# Altium footprint library Control_Board_Model_C201.PcbLib: 94 footprints (part 6 of 6)
Each footprint in its own frame and in the unit in brackets; x right, y up, seen from the top. Pads: shape width x height; smd on the part's side, far side on the other; paste and mask are expansions set on the pad; w line width, h text height; cw(c..) or ccw(c..) is an arc to the next point about the centre after c.
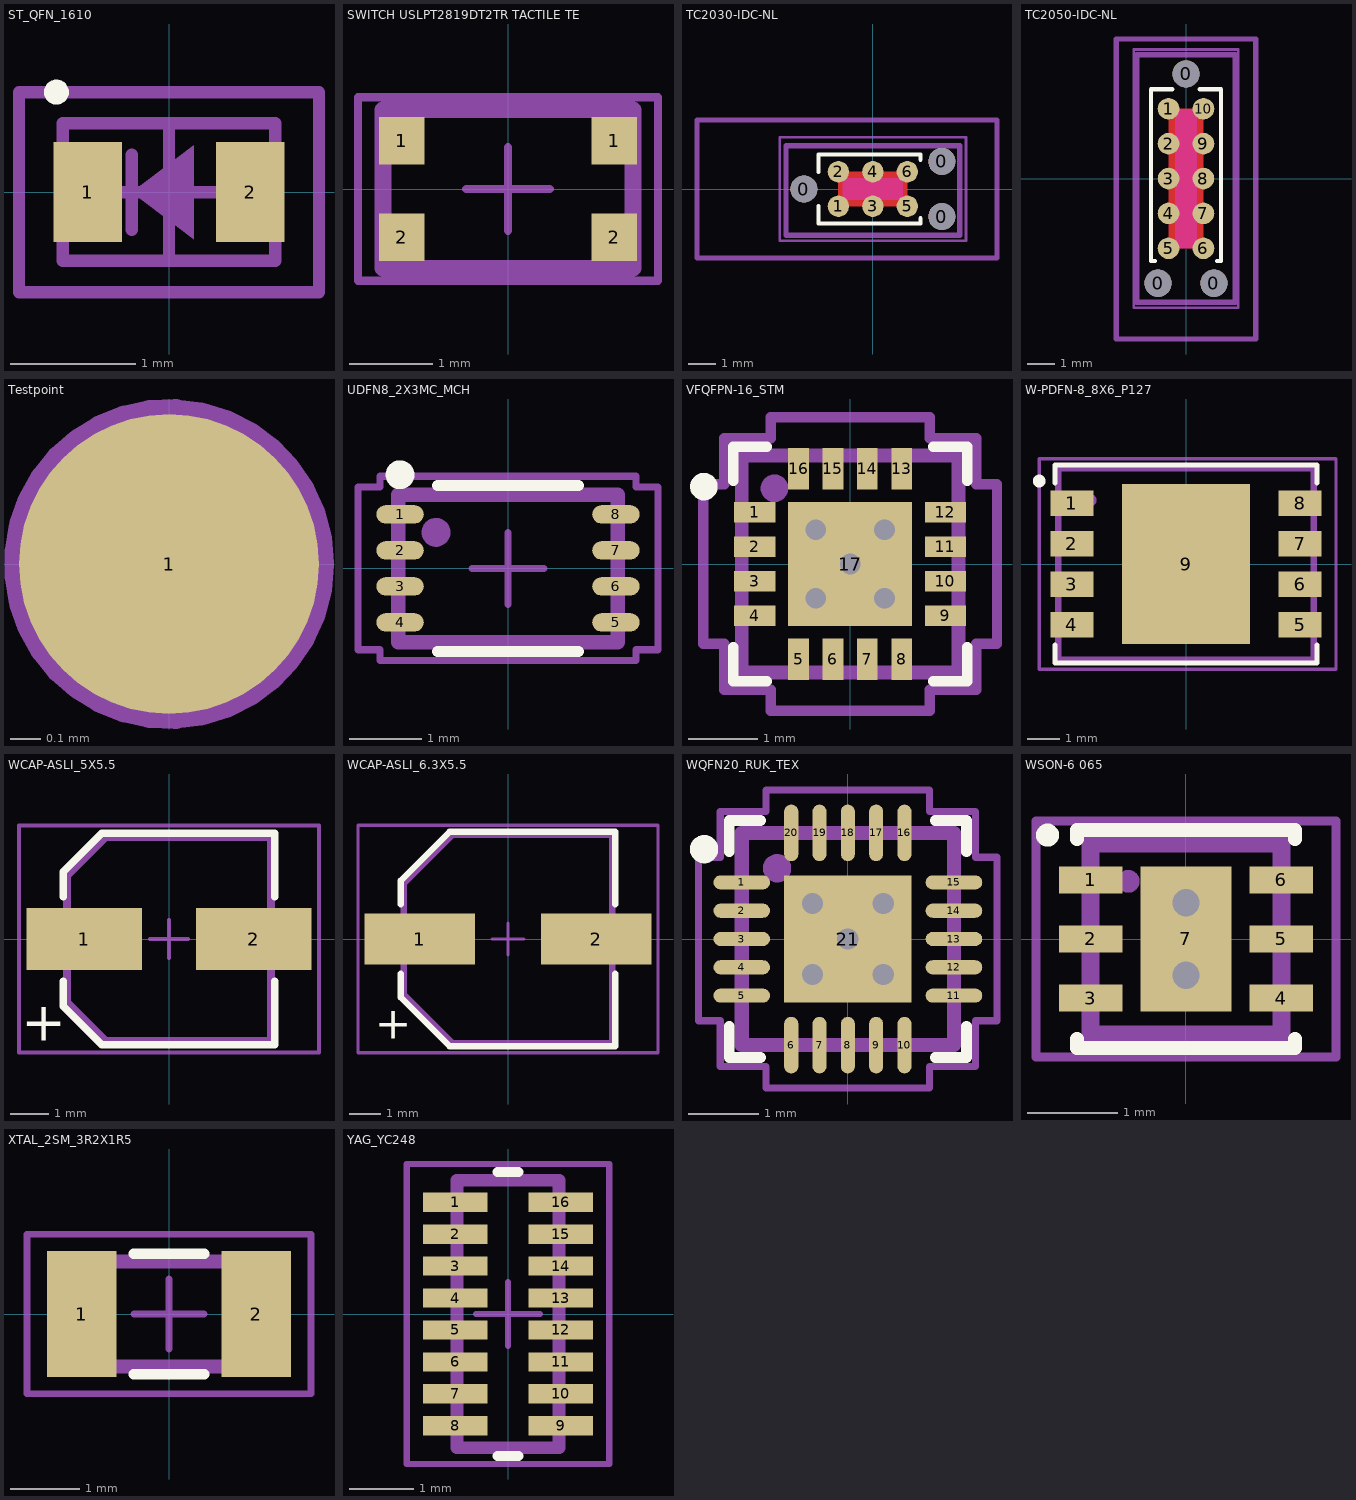
[diagram p5: the footprints below, top view; thin cyan lines are the x and y axes]

## ST_QFN_1610 [mm] "2-UDFN"
height 0.6
pads (2):
  rect 0.55x0.8 smd: 1(-0.65,0) 2(0.65,0)
Top Overlay:
  circle w0.1: c-0.9,0.8 r0.05
Mechanical 14:
  region: -0.3,0 0.2,0.375 0.2,-0.375
  lines w0.1: -0.3,-0.3 -0.3,0.3 ; -0.85,-0.55 0.85,-0.55 0.85,0.55 -0.85,0.55 -0.85,-0.55
  text "'.Designator'" at -0.8,0.8 h0.5
Mechanical 15:
  lines w0.1: -0.5,0 0.5,0 ; 0,-0.5 0,0.5 ; -1.2,-0.8 1.2,-0.8 1.2,0.8 -1.2,0.8 -1.2,-0.8
3D body "ST_1610.step": height 0.6, standoff 0, extent -0.85,-0.55 0.85,0.55

## SWITCH USLPT2819DT2TR TACTILE TE [mm] "Tactile Switch SPST-NO Top Actuated Surface Mount"
height 0.6
pads (4):
  rect 0.55x0.57 smd: 1(-1.275,0.58) 1(1.275,0.58) 2(-1.275,-0.58) 2(1.275,-0.58)
Mechanical 14:
  lines w0.2: -1.5,-0.95 1.5,-0.95 1.5,0.95 -1.5,0.95 -1.5,-0.95
  text "'.Designator'" at -0.7,-0.2 h0.5
Mechanical 15:
  lines w0.1: -0.5,0 0.5,0 ; 0,-0.5 0,0.5 ; -1.8,-1.1 -1.8,1.1 1.8,1.1 1.8,-1.1 -1.8,-1.1
3D body "c-2337225-1-a-3d.stp": height 0.6, standoff 0, extent -1.5,-0.95 1.5,0.95

## TC2030-IDC-NL [mil] "Tag-Connect 6-Pin with No Legs (PN# TC2030-IDC-NL)"
pads (9):
  round 39 hole 39 unplated paste-20: 0(-100,0) 0(100,-40) 0(100,40)
  round 31 smd paste-16: 1(-50,-25) 2(-50,25) 3(0,-25) 4(0,25) 5(50,-25) 6(50,25)
Top Layer:
  pour cut-out: -50,25 50,25 50,-25 -50,-25
Top Layer keep-out:
  rectangle: -44,-16 44,16
Top Overlay:
  lines w5.98: -78.74,-24.61 -78.74,-50 68.9,-50 68.9,-42.32 ; -78.74,24.61 -78.74,50 68.9,50 68.9,42.32
Mechanical 14:
  lines w7.87: -125.98,-66.93 -125.98,62.99 125.98,62.99 125.98,-66.93 -125.98,-66.93
  text "6" at 43.31,15.75 h19.68
  text "5" at 43.31,-35.43 h19.68
  text "4" at -7.87,15.75 h19.68
  text "3" at -7.87,-35.43 h19.68
  text "2" at -59.06,15.75 h19.68
  text "1" at -55.12,-35.43 h19.68
  text "'.Designator'" at -39.37,-7.87 h19.68
Mechanical 15:
  lines w3.94: -19.68,0 19.68,0 ; 0,-19.68 0,19.68 ; -135,-75 -135,75 135,75 135,-75 -135,-75
Mechanical 19:
  lines w7.87: -255,-100 -255,100 180,100 180,-100 -255,-100

## TC2050-IDC-NL [mil] "Tag-Connect 10-Pin with No Legs (PN# TC2050-IDC-NL)"
pads (13):
  round 39 hole 39 unplated: 0(-40,-150) 0(0,150) 0(40,-150)
  round 31 smd paste-16: 1(-25,100) 2(-25,50) 3(-25,0) 4(-25,-50) 5(-25,-100) 6(25,-100) 7(25,-50) 8(25,0) 9(25,50) 10(25,100)
Top Layer:
  pour cut-out: -25,100 25,100 25,-100 -25,-100
Top Layer keep-out:
  region: -16,100 -16,-100 16,-100 16,100
Top Overlay:
  lines w6: -44.29,-118.11 -50,-118.11 -50,127.95 -19.68,127.95 ; 19.68,127.95 50,127.95 50,-118.11 44.29,-118.11
Mechanical 14:
  lines w7.87: -70.87,-177.17 -70.87,177.17 70.87,177.17 70.87,-177.17 -70.87,-177.17
  text "'.Designator'" at -78.74,192.91 h19.68
  text "10" at 11.81,90.55 h19.68
  text "1" at -27.56,90.55 h19.68
  text "9" at 19.68,39.37 h19.68
  text "2" at -31.5,39.37 h19.68
  text "8" at 19.68,-7.87 h19.68
  text "3" at -31.5,-7.87 h19.68
  text "7" at 19.68,-59.06 h19.68
  text "4" at -35.43,-59.06 h19.68
  text "5" at -31.5,-110.24 h19.68
  text "6" at 19.68,-106.3 h19.68
Mechanical 15:
  lines w3.94: -19.68,0 19.68,0 ; 0,-19.68 0,19.68 ; -74.8,-185.04 74.8,-185.04 74.8,185.04 -74.8,185.04 -74.8,-185.04
Mechanical 19:
  lines w7.87: -100,-230 100,-230 100,200 -100,200 -100,-230

## Testpoint [mm] "Test Point"
height 0.025
pads (1):
  round 1 smd paste-0.508 mask-0.025: 1(0,0)
Mechanical 14:
  circle w0.1: c0,0 r0.5
  text "'.Designator'" at -0.625,0.625 h0.5
3D body: height -0.19, standoff -0.2, extent -0.496,-0.499 0.5,0.499

## UDFN8_2X3MC_MCH [mil] "8-UFDFN Exposed Pad"
pads (8):
  rrect100% 26x10 smd mask+1.97: 1(-59.04,29.53) 2(-59.04,9.84) 3(-59.04,-9.84) 4(-59.04,-29.53) 5(59.04,-29.53) 6(59.04,-9.84) 7(59.04,9.84) 8(59.04,29.53)
Top Overlay:
  circle w7.87: c-59.06,51.18 r3.94
  lines w6: -38.66,-45.35 38.66,-45.35 ; -38.66,45.35 38.66,45.35
Mechanical 14:
  circle w7.87: c-39.37,19.68 r3.94
  lines w7.87: -60.04,-40.35 -60.04,40.35 60.04,40.35 60.04,-40.35 -60.04,-40.35
  text "'.Designator'" at -27.56,-11.81 h19.68
Mechanical 15:
  lines w3.94: -19.68,0 19.68,0 ; 0,-19.68 0,19.68 ; -82.04,-44.53 -70.04,-44.53 -70.04,-50.35 70.04,-50.35 70.04,-44.53 82.04,-44.53 82.04,44.53 70.04,44.53 70.04,50.35 -70.04,50.35 -70.04,44.53 -82.04,44.53 -82.04,-44.53
3D body "UDFN8_2x3MC_MCH.step": height 18.74, standoff 0, extent -60.04,-40.35 60.04,40.35

## VFQFPN-16_STM [mm]
pads (17):
  rect 0.6x0.3 smd mask+0.05: 1(-1.385,0.75) 2(-1.385,0.25) 3(-1.385,-0.25) 4(-1.385,-0.75) 9(1.385,-0.75) 10(1.385,-0.25) 11(1.385,0.25) 12(1.385,0.75)
  rect 0.3x0.6 smd mask+0.05: 5(-0.75,-1.385) 6(-0.25,-1.385) 7(0.25,-1.385) 8(0.75,-1.385) 13(0.75,1.385) 14(0.25,1.385) 15(-0.25,1.385) 16(-0.75,1.385)
  rect 1.8x1.8 smd mask+0.05: 17(0,0)
via 0,0 diameter 0.605 hole 0.3
via 0.5,-0.5 diameter 0.605 hole 0.3
via -0.5,-0.5 diameter 0.605 hole 0.3
via 0.5,0.5 diameter 0.605 hole 0.3
via -0.5,0.5 diameter 0.605 hole 0.3
Top Overlay:
  circle w0.2: c-2.125,1.125 r0.1
  lines w0.152: -1.702,-1.21 -1.702,-1.702 -1.21,-1.702 ; -1.702,1.21 -1.702,1.702 -1.21,1.702 ; 1.21,-1.702 1.702,-1.702 1.702,-1.21 ; 1.21,1.702 1.702,1.702 1.702,1.21
Mechanical 14:
  circle w0.2: c-1.1,1.1 r0.1
  lines w0.2: -1.575,-1.575 1.575,-1.575 1.575,1.575 -1.575,1.575 -1.575,-1.575
  text "'.Designator'" at -1,-0.2 h0.5
Mechanical 15:
  lines w0.1: -0.5,0 0.5,0 ; 0,-0.5 0,0.5
  lines w0.152: -2.134,-1.156 -1.829,-1.156 -1.829,-1.829 -1.156,-1.829 -1.156,-2.134 1.156,-2.134 1.156,-1.829 1.829,-1.829 1.829,-1.156 2.134,-1.156 2.134,1.156 1.829,1.156 1.829,1.829 1.156,1.829 1.156,2.134 -1.156,2.134 -1.156,1.829 -1.829,1.829 -1.829,1.156 -2.134,1.156 -2.134,-1.156
3D body "VFQFPN-16_STM.step": height 0.94, standoff 0, extent -1.575,-1.575 1.575,1.575

## W-PDFN-8_8X6_P127 [mm]
pads (9):
  rect 1.35x0.8 smd mask+0.05: 1(-3.575,1.905) 2(-3.575,0.635) 3(-3.575,-0.635) 4(-3.575,-1.905) 5(3.575,-1.905) 6(3.575,-0.635) 7(3.575,0.635) 8(3.575,1.905)
  rect 4x5 smd mask+0.05: 9(0,0)
Top Overlay:
  circle w0.2: c-4.6,2.6 r0.1
  lines w0.152: -4.1,-2.54 -4.1,-3.1 4.1,-3.1 4.1,-2.54 ; -4.1,2.54 -4.1,3.1 4.1,3.1 4.1,2.54
Mechanical 14:
  circle w0.2: c-3,2 r0.1
  lines w0.2: 4,3 -4,3 -4,-3 4,-3 4,3 ; 4,3 4,3
  text ".Designator" at -1.1,-0.2 h0.5
Mechanical 15:
  lines w0.1: -0.635,0 0.635,0 ; 0,-0.635 0,0.635 ; -4.6,-3.3 -4.6,3.3 4.7,3.3 4.7,-3.3 -4.6,-3.3
3D body: height 0.8, standoff 0, extent -4.005,-3.005 4.005,3.005

## WCAP-ASLI_5X5.5 [mm] "Aluminium Electrolytic V-Chip SMT Capacitors, 5x5.5mm"
height 5.5
pads (2):
  rect 3x1.6 smd: 1(-2.2,0) 2(2.2,0)
Top Overlay:
  lines w0.2: -2.75,-1.1 -2.75,-1.75 -1.75,-2.75 2.75,-2.75 2.75,-1.1 ; -2.75,1.1 -2.75,1.75 -1.75,2.75 2.75,2.75 2.75,1.1
  text "+" at -2.667,-1.778 h1.02
Mechanical 14:
  lines w0.2: -2.65,-1.65 -2.65,1.65 -1.65,2.65 2.65,2.65 2.65,-2.65 -1.65,-2.65 -2.65,-1.65
  text "+" at -1.524,0.508 h1.02
  text "'.Designator'" at 0.254,-0.635 h0.5
Mechanical 15:
  lines w0.1: -0.5,0 0.5,0 ; 0,-0.5 0,0.5 ; -3.9,-2.95 3.9,-2.95 3.9,2.95 -3.9,2.95 -3.9,-2.95
3D body "5x5.5x1.4.stp": height 5.5, standoff 0, extent -3,-2.65 3,2.65

## WCAP-ASLI_6.3X5.5 [mm] "Aluminium Electrolytic V-Chip SMT Capacitors, 6.3x5.5mm"
height 5.5
pads (2):
  rect 3.5x1.6 smd: 1(-2.8,0) 2(2.8,0)
Top Overlay:
  lines w0.2: -3.4,-1.1 -3.4,-1.85 -1.85,-3.4 3.4,-3.4 3.4,-1.1 ; -3.4,1.1 -3.4,1.85 -1.85,3.4 3.4,3.4 3.4,1.1
  text "+" at -3.048,-2.286 h1.02
Mechanical 14:
  lines w0.2: -3.3,-1.75 -3.3,1.75 -1.75,3.3 3.3,3.3 3.3,-3.3 -1.75,-3.3 -3.3,-1.75
  text "+" at -2.159,0.508 h1.02
  text "'.Designator'" at -0.635,0 h0.5
Mechanical 15:
  lines w0.1: -0.5,0 0.5,0 ; 0,-0.5 0,0.5 ; -4.75,-3.6 4.75,-3.6 4.75,3.6 -4.75,3.6 -4.75,-3.6
3D body "6.3x5.5x2.2.stp": height 5.5, standoff 0, extent -3.65,-3.3 3.65,3.3

## WQFN20_RUK_TEX [mm]
pads (21):
  rrect100% 0.8x0.2 smd mask+0.05: 1(-1.5,0.8) 2(-1.5,0.4) 3(-1.5,0) 4(-1.5,-0.4) 5(-1.5,-0.8) 11(1.5,-0.8) 12(1.5,-0.4) 13(1.5,0) 14(1.5,0.4) 15(1.5,0.8)
  rrect100% 0.2x0.8 smd mask+0.05: 6(-0.8,-1.5) 7(-0.4,-1.5) 8(0,-1.5) 9(0.4,-1.5) 10(0.8,-1.5) 16(0.8,1.5) 17(0.4,1.5) 18(0,1.5) 19(-0.4,1.5) 20(-0.8,1.5)
  rect 1.8x1.8 smd paste-2 mask+0.05: 21(0,0)
via 0.5,-0.5 diameter 0.605 hole 0.3
via -0.5,-0.5 diameter 0.605 hole 0.3
via 0.5,0.5 diameter 0.605 hole 0.3
via -0.5,0.5 diameter 0.605 hole 0.3
via 0,0 diameter 0.605 hole 0.3
Top Overlay:
  circle w0.2: c-2.032,1.27 r0.1
  lines w0.152: -1.676,-1.234 -1.676,-1.676 -1.234,-1.676 ; -1.676,1.234 -1.676,1.676 -1.234,1.676 ; 1.234,-1.676 1.676,-1.676 1.676,-1.234 ; 1.234,1.676 1.676,1.676 1.676,1.234
Top Paste:
  region: 0.15,0.85 0.15,0.15 0.85,0.15 0.85,0.85
  region: 0.85,-0.15 0.15,-0.15 0.15,-0.85 0.85,-0.85
  region: -0.15,-0.85 -0.15,-0.15 -0.85,-0.15 -0.85,-0.85
  rectangle: -0.85,0.15 -0.15,0.85
Mechanical 14:
  circle w0.2: c-1,1 r0.1
  lines w0.2: -1.5,-1.5 -1.5,1.5 1.5,1.5 1.5,-1.5 -1.5,-1.5
  text "'.Designator'" at -0.8,-0.3 h0.5
Mechanical 15:
  lines w0.1: -0.5,0 0.5,0 ; 0,-0.5 0,0.5 ; -2.108,-1.156 -2.108,1.156 -1.803,1.156 -1.803,1.803 -1.156,1.803 -1.156,2.108 1.156,2.108 1.156,1.803 1.803,1.803 1.803,1.156 2.108,1.156 2.108,-1.156 1.803,-1.156 1.803,-1.803 1.156,-1.803 1.156,-2.108 -1.156,-2.108 -1.156,-1.803 -1.803,-1.803 -1.803,-1.156 -2.108,-1.156
3D body "RUK0020B.stp": height 0.8, standoff 0, extent -1.5,-1.5 1.5,1.5

## WSON-6 065 [mm]
height 0.8
pads (7):
  rect 0.7x0.3 smd mask+0.05: 1(-1.05,0.65) 2(-1.05,0) 3(-1.05,-0.65) 4(1.05,-0.65) 5(1.05,0) 6(1.05,0.65)
  rect 1x1.6 smd mask+0.05: 7(0,0)
via 0,0.4 diameter 0.605 hole 0.3
via 0,-0.4 diameter 0.605 hole 0.3
Top Overlay:
  circle w0.152: c-1.524,1.143 r0.051
  lines w0.152: -1.2,-1.1 -1.2,-1.2 1.2,-1.2 1.2,-1.1 ; -1.2,1.1 -1.2,1.2 1.2,1.2 1.2,1.1
Mechanical 14:
  circle w0.15: c-0.635,0.635 r0.05
  lines w0.2: -1.05,-1.05 -1.05,1.05 1.05,1.05 1.05,-1.05 -1.05,-1.05
  text "'.Designator'" at 0.254,-0.635 h0.5
Mechanical 15:
  lines w0.1: -0.4,0 0.4,0 ; 0,-0.4 0,0.4 ; -1.651,-1.3 1.651,-1.3 1.651,1.3 -1.651,1.3 -1.651,-1.3
3D body "WSON-6.STEP": height 0.8, standoff 0, extent -1.05,-1.05 1.05,1.05

## XTAL_2SM_3R2X1R5 [mm]
pads (2):
  rect 1x1.8 smd: 1(-1.25,0) 2(1.25,0)
Top Overlay:
  lines w0.152: -0.508,-0.864 0.508,-0.864 ; -0.508,0.864 0.508,0.864
Mechanical 14:
  lines w0.2: -1.6,-0.75 -1.6,0.75 1.6,0.75 1.6,-0.75 -1.6,-0.75
  text ".Designator" at -1.1,-0.2 h0.5
Mechanical 15:
  lines w0.1: -0.5,0 0.5,0 ; 0,-0.5 0,0.5 ; -2.032,-1.143 -2.032,1.143 2.032,1.143 2.032,-1.143 -2.032,-1.143
3D body: height 0.8, standoff 0, extent -1.6,-0.75 1.6,0.75

## YAG_YC248 [mm]
pads (16):
  rect 1.016x0.3 smd: 1(-0.826,1.75) 2(-0.826,1.25) 3(-0.826,0.75) 4(-0.826,0.25) 5(-0.826,-0.25) 6(-0.826,-0.75) 7(-0.826,-1.25) 8(-0.826,-1.75) 9(0.826,-1.75) 10(0.826,-1.25) 11(0.826,-0.75) 12(0.826,-0.25) 13(0.826,0.25) 14(0.826,0.75) 15(0.826,1.25) 16(0.826,1.75)
Top Overlay:
  lines w0.152: -0.163,-2.222 0.163,-2.222 ; -0.163,2.222 0.163,2.222
Mechanical 13:
  lines w0: -0.8,-1.572 ccw(c-0.8,-1.5) -0.8,-1.428 ; -0.8,-1.072 ccw(c-0.8,-1) -0.8,-0.928 ; -0.8,-0.572 ccw(c-0.8,-0.5) -0.8,-0.428 ; -0.8,-0.072 ccw(c-0.8,0) -0.8,0.072 ; -0.8,0.428 ccw(c-0.8,0.5) -0.8,0.572 ; -0.8,0.928 ccw(c-0.8,1) -0.8,1.072 ; -0.8,1.428 ccw(c-0.8,1.5) -0.8,1.572 ; 0.8,-1.572 cw(c0.8,-1.5) 0.8,-1.428 ; 0.8,-1.072 cw(c0.8,-1) 0.8,-0.928 ; 0.8,-0.572 cw(c0.8,-0.5) 0.8,-0.428 ; 0.8,-0.072 cw(c0.8,0) 0.8,0.072 ; 0.8,0.428 cw(c0.8,0.5) 0.8,0.572 ; 0.8,0.928 cw(c0.8,1) 0.8,1.072 ; 0.8,1.428 cw(c0.8,1.5) 0.8,1.572
Mechanical 14:
  lines w0.2: -0.8,-2.096 -0.8,2.096 0.8,2.096 0.8,-2.096 -0.8,-2.096
  text "'.Designator'" at -0.127,0.889 h0.5
Mechanical 15:
  lines w0.1: -0.5,0 0.5,0 ; 0,-0.5 0,0.5 ; -1.587,-2.349 -1.587,2.349 1.587,2.349 1.587,-2.349 -1.587,-2.349
3D body "YAG_YC248.step": height 0.56, standoff 0, extent -0.8,-2.096 0.8,2.096